# Altium footprint library WSON-8 (2x2).PcbLib: 1 footprints
Each footprint in its own frame and in the unit in brackets; x right, y up, seen from the top. Pads: shape width x height; smd on the part's side, far side on the other; paste and mask are expansions set on the pad; w line width, h text height; cw(c..) or ccw(c..) is an arc to the next point about the centre after c.
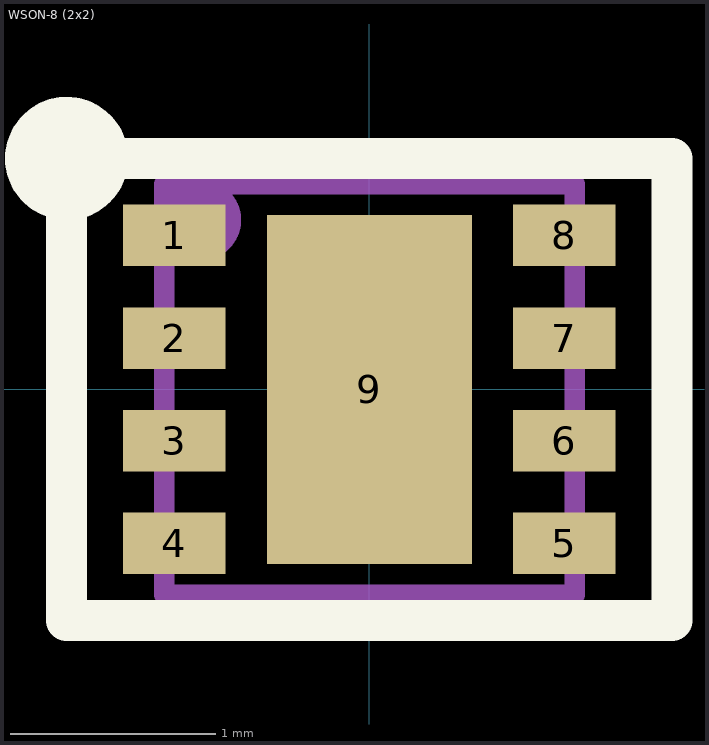
[diagram p0: the footprint, top view; thin cyan lines are the x and y axes]

## WSON-8 (2x2) [mm]
pads (9):
  rect 0.5x0.3 smd: 1(-0.95,0.75) 2(-0.95,0.25) 3(-0.95,-0.25) 4(-0.95,-0.75) 5(0.95,-0.75) 6(0.95,-0.25) 7(0.95,0.25) 8(0.95,0.75)
  rect 1x1.7 smd: 9(0,0)
Top Overlay:
  circle w0.3: c-1.475,1.125 r0.15
  lines w0.2: -1.475,-1.125 -1.475,1.125 1.475,1.125 1.475,-1.125 -1.475,-1.125
Top Assembly:
  circle w0.2: c-0.825,0.825 r0.1
  lines w0.1: -1,-1 1,-1 1,1 -1,1 -1,-1
  text "'.Designator'" at 0,0 h0.7
3D body "BQ25170DSGR.stp": height 0.77, standoff 0, extent -1,-1 1,1